# EAGLE library part LM3407 (library microbuilder)
LM3407 - 350 mA, Constant Current Output Floating Buck Switching Converter for High Power LEDs
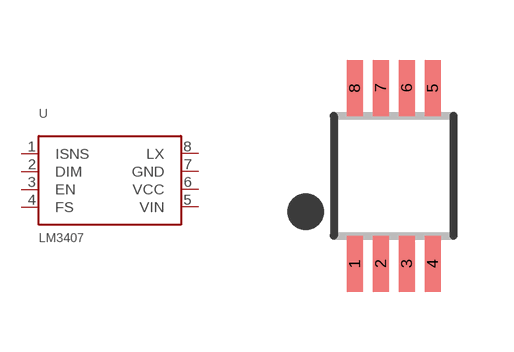
[diagram p152: symbol with the pads of MSOP8_0.65MM; footprint MSOP8_0.65MM]

Designator prefix U

## LM3407  [MSOP8_0.65MM]
1  ISNS
2  DIM
3  EN
4  FS
5  VIN
6  VCC
7  GND
8  LX

## Footprint MSOP8_0.65MM (pad centres in mm)
Source: http://www.intersil.com/data/fn/fn7833.pdf
smd 0.4 x 1.4: 1 -0.975,-2.2; 2 -0.325,-2.2; 3 0.325,-2.2; 4 0.975,-2.2; 5 0.975,2.2; 6 0.325,2.2; 7 -0.325,2.2; 8 -0.975,2.2